# EAGLE library part DC/DC-QUARTER_BRICK (library HyTech)
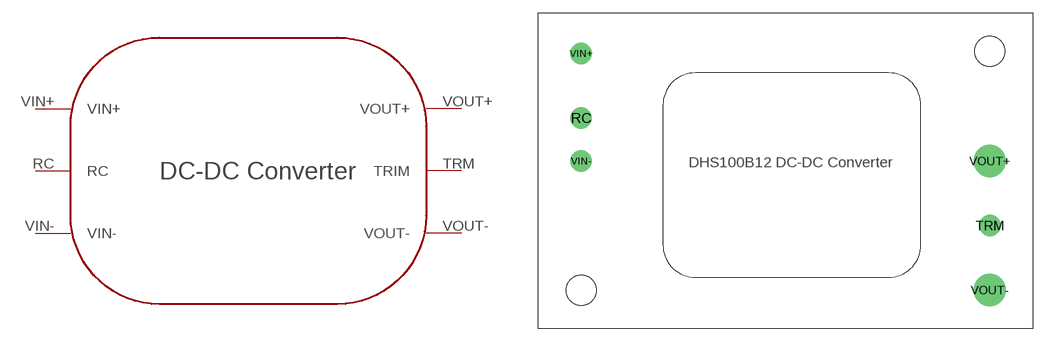
[diagram p5: symbol with the pads of DC/DC-QUARTER_BRICK_COSEL; footprint DC/DC-QUARTER_BRICK_COSEL]

Designator prefix -

## DC/DC-QUARTER_BRICKDHS100B12  [DC/DC-QUARTER_BRICK_COSEL]
RC  RC
TRM  TRIM
VIN+  VIN+
VIN-  VIN-
VOUT+  VOUT+
VOUT-  VOUT-

## Footprint DC/DC-QUARTER_BRICK_COSEL (pad centres in mm)
COSEL DHS100B12 DC-DC converter 100.8 W /12 V/ 8.4 A/ 85 % Eff. overvoltage protection < 21.75 V
drill 1.524 pad 2.54: RC 5.08,24.892; TRM 53.34,12.192; VIN+ 5.08,32.512; VIN- 5.08,19.812
drill 2.54 pad 3.81: VOUT+ 53.34,19.812; VOUT- 53.34,4.572
hole 3.556 at 5.08,4.572
hole 3.556 at 53.34,32.766